# EAGLE library part RX-4MM5 (library #PaJa_31)
Aurel - Reciever - 433,92MHz
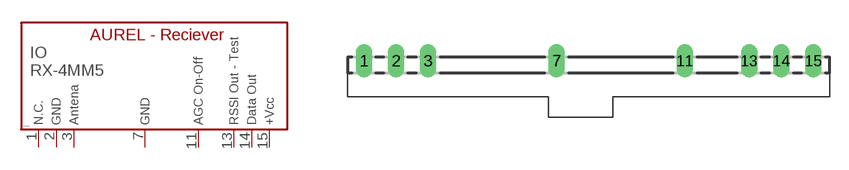
[diagram p69: symbol with the pads of RX-BC-NB; footprint RX-BC-NB]

Designator prefix IO

## RX-4MM5  [RX-BC-NB]
1  NC  nc
2  GND  pwr
3  ANTENA  pas
7  GND  pwr
11  AGC_ON-OFF  pas
13  RSSI_OUT_TEST  pas
14  OUT  out
15  VCC  pwr

## Footprint RX-BC-NB (pad centres in mm)
Modul prijimace AUREL - 433,92 MHz RX-4MM5
drill 0.813 pad 1.27 long: 1 -17.78,0; 2 -15.24,0; 3 -12.7,0; 7 -2.54,0; 11 7.62,0; 13 12.7,0; 14 15.24,0; 15 17.78,0